# Altium integrated library Rosenberger BNC 50 Ohm.IntLib: 4 symbols
Pins are listed as number, name and electrical type; pins without a type are passive.

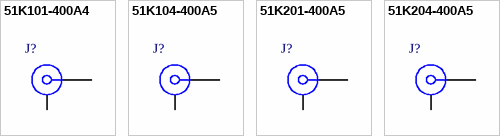
[diagram p0: symbols 51K101-400A4 to 51K204-400A5]

## 51K101-400A4
designator J?
BNC 50R Straight Jack, Up to 10 GHz, -55 to 155 degC; PartNumber: 51K101-400A4; Design Note: Footprint in library is a generic example - only application specific footprint delivers High Performance; DatasheetVersion: c00; PackageVersion: c00; PackageReference: 51K101-400A4; PackageDescription: 50R BNC Straight Jack, 12 x 12 x 15 mm; Mounting Technology: Through Hole; ComponentLink1Description: Manufacturer URL; ComponentLink1URL: http://www.rosenberger.de; ComponentLink2Description: Datasheet; ComponentLink2URL: http://rosenberger.de/ok/images/documents/db/51K101-400A4.pdf; ComponentLink3Description: Package Specification; ComponentLink3URL: http://rosenberger.de/ok/images/documents/db/51K101-400A4.pdf; ComponentLink4Description: URL Link1; ComponentLink4URL: Series Overview / Design Note:http://rosenberger.de/ok/images/documents/spez/51.pdf; ComponentLink5Description: Webshop / RFQ; ComponentLink5URL: http://www.rosenberger.com/en/contact/sales/
footprint ROS-51K101-400A4_V (BNC 50R Straight Jack, 12x12x15mm, Rosenberger Recommended)
pins: 1, MH

## 51K104-400A5
designator J?
BNC 50R Straight Jack, Up to 10 GHz, -55 to 155 degC; PartNumber: 51K104-400A5; Design Note: Footprint in library is a generic example - only application specific footprint delivers High Performance; DatasheetVersion: d00; PackageVersion: d00; PackageReference: 51K104-400A5; PackageDescription: 50R BNC Straight Jack, 12 x 12 x 12.5 mm; Mounting Technology: Through Hole; ComponentLink1Description: Manufacturer URL; ComponentLink1URL: http://www.rosenberger.de; ComponentLink2Description: Datasheet; ComponentLink2URL: http://rosenberger.de/ok/images/documents/db/51K104-400A5.pdf; ComponentLink3Description: Package Specification; ComponentLink3URL: http://rosenberger.de/ok/images/documents/db/51K104-400A5.pdf; ComponentLink4Description: Series Overview / Design Note; ComponentLink4URL: http://rosenberger.de/ok/images/documents/spez/51.pdf; ComponentLink5Description: Webshop / RFQ; ComponentLink5URL: http://www.rosenberger.com/en/contact/sales/
footprint ROS-51K104-400A5_V (BNC 50R Straight Jack, 12x12x12.5mm, Rosenberger Recommended)
pins: 1, MH

## 51K201-400A5
designator J?
BNC 50R Right Angle Jack, Up to 10 GHz, -55 to 155 degC; PartNumber: 51K201-400A5; Design Note: Footprint in library is a generic example - only application specific footprint delivers High Performance; DatasheetVersion: a00; PackageVersion: a00; PackageReference: 51K201-400A5; PackageDescription: 50R BNC Right Angle Jack, 12 x 23.1 x 14.5 mm; Mounting Technology: Through Hole; ComponentLink1Description: Manufacturer URL; ComponentLink1URL: http://www.rosenberger.de; ComponentLink2Description: Datasheet; ComponentLink2URL: http://rosenberger.de/ok/images/documents/db/51K201-400A5.pdf; ComponentLink3Description: Package Specification; ComponentLink3URL: http://rosenberger.de/ok/images/documents/db/51K201-400A5.pdf; ComponentLink4Description: Series Overview / Design Note; ComponentLink4URL: http://rosenberger.de/ok/images/documents/spez/51.pdf; ComponentLink5Description: Webshop / RFQ; ComponentLink5URL: http://www.rosenberger.com/en/contact/sales/
footprint ROS-51K201-400A5_V (BNC 50R Right Angle Jack, 12x23.1x14.5mm, Rosenberger Recommended)
pins: 1, MH

## 51K204-400A5
designator J?
BNC 50R Right Angle Jack, Panel Feedthrough, Up to 10 GHz, -55 to 155 degC; PartNumber: 51K204-400A5; Design Note: Footprint in library is a generic example - only application specific footprint delivers High Performance; DatasheetVersion: d00; PackageVersion: d00; PackageReference: 51K204-400A5; PackageDescription: 50R BNC Right Angle Jack, 12.5 x 32.6 x 14.5 mm; Mounting Technology: Through Hole; ComponentLink1Description: Manufacturer URL; ComponentLink1URL: http://www.rosenberger.de; ComponentLink2Description: Datasheet; ComponentLink2URL: http://rosenberger.de/ok/images/documents/db/51K204-400A5.pdf; ComponentLink3Description: Package Specification; ComponentLink3URL: http://rosenberger.de/ok/images/documents/db/51K204-400A5.pdf; ComponentLink4Description: Series Overview / Design Note; ComponentLink4URL: http://rosenberger.de/ok/images/documents/spez/51.pdf; ComponentLink5Description: Webshop / RFQ; ComponentLink5URL: http://www.rosenberger.com/en/contact/sales/
footprint ROS-51K204-400A5_V (BNC 50R Right Angle Jack, 12.5x32.6x14.5mm, Rosenberger Recommended)
pins: 1, MH